# EAGLE library part IS25LP016D (library is25lp016d-jkle-rt)
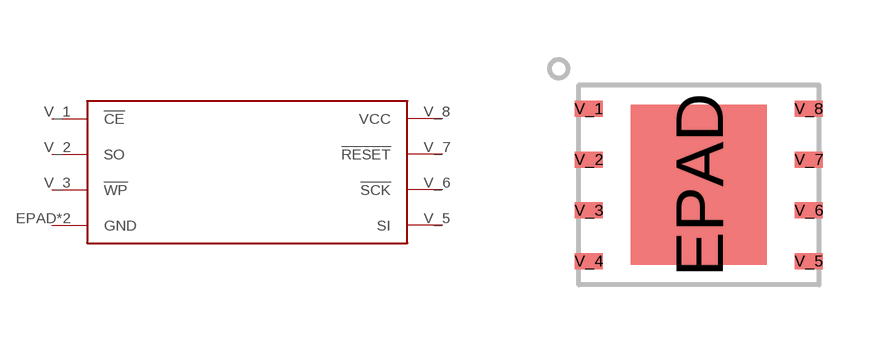
[diagram p0: symbol with the pads of 8WSON; footprint 8WSON]

Designator prefix -

## IS25LP016D  [8WSON]
EPAD  GND
V_1  !CE
V_2  SO
V_3  !WP
V_4  GND
V_5  SI
V_6  !SCK
V_7  !RESET
V_8  VCC

## Footprint 8WSON (pad centres in mm)
smd 3.4 x 4: EPAD 0,0
smd 0.7 x 0.4: V_1 -2.75,1.905; V_2 -2.75,0.635; V_3 -2.75,-0.635; V_4 -2.75,-1.905; V_5 2.75,-1.905; V_6 2.75,-0.635; V_7 2.75,0.635; V_8 2.75,1.905